# EAGLE library part 310990023_ETA6003Q3Q (library Seeed-OPL-2017-01-IC-Akita)
ETA;ETA6003Q3Q, SMD Charger with Dynamic Power Path Management;QFN3*3-16, SKU: 310990023
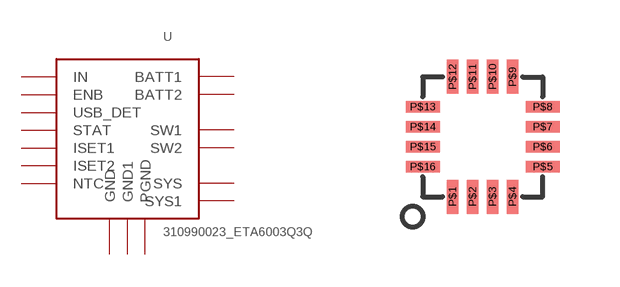
[diagram p14: symbol with the pads of QFN16; footprint QFN16]

Designator prefix U

## 310990023_ETA6003Q3Q  [QFN16]
P$1  SYS
P$2  IN
P$3  SW1
P$4  SW2
P$5  PGND
P$6  ENB
P$7  NTC
P$8  GND
P$9  STAT
P$10  GND1
P$11  ISET1
P$12  ISET2
P$13  USB_DET
P$14  BATT1
P$15  SYS1
P$16  BATT2

## Footprint QFN16 (pad centres in mm)
QFN16 (3x3mm)
smd 0.28 x 0.85: P$1 -0.75,-1.5; P$2 -0.25,-1.5; P$3 0.25,-1.5; P$4 0.75,-1.5; P$9 0.75,1.5; P$10 0.25,1.5; P$11 -0.25,1.5; P$12 -0.75,1.5
smd 0.85 x 0.28: P$5 1.5,-0.75; P$6 1.5,-0.25; P$7 1.5,0.25; P$8 1.5,0.75; P$13 -1.5,0.75; P$14 -1.5,0.25; P$15 -1.5,-0.25; P$16 -1.5,-0.75